# Altium schematic symbol library TPS61070.SCHLIB: 1 symbol
Pins are listed as number, name and electrical type; pins without a type are passive.

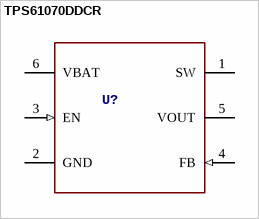
[diagram p0: symbol TPS61070DDCR]

## TPS61070DDCR
designator U?
MANUFACTURER: Texas Instruments; GateName_1: A; SymbolName_1: TPS61070DDC; DeviceSetName: TPS61070DDCR; COMPTYPE: IC; PIN_COUNT: 6; LibraryName: TPS61070; Package: DDC0006A_N; APPLICATION_BUILDNUMBER: *; MOUNTTYPE: SMT; PACKAGEREFERENCE: DDC0006A; PARTNUMBER: TPS61070DDC; REFDES: RefDes; ROHS: Y; TYPE: TYPE
footprint DDC0006A_N
pins: 1 SW (power), 2 GND (power), 3 EN (in), 4 FB (in), 5 VOUT (power), 6 VBAT (power)